# Altium schematic symbol library DMP3013SFV-7.SchLib: 1 symbol
Pins are listed as number, name and electrical type; pins without a type are passive.

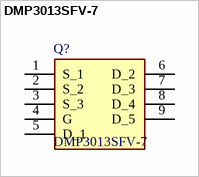
[diagram p0: symbol DMP3013SFV-7]

## DMP3013SFV-7
designator Q?
Trans MOSFET P-CH 30V 12A 8-Pin PowerDI EP T/R; Manufacturer_Name: Diodes Incorporated; Geometry.Height: 0.85mm; Mouser Part Number: 621-DMP3013SFV-7; Mouser Price/Stock: https://www.mouser.co.uk/ProductDetail/Diodes-Incorporated/DMP3013SFV-7?qs=W0yvOO0ixfH1hnmiAtL1VQ%3D%3D; Manufacturer_Part_Number: DMP3013SFV-7; Datasheet Link: https://4donline.ihs.com/images/VipMasterIC/IC/DIOD/DIOD-S-A0008513542/DIOD-S-A0008513542-1.pdf?hkey=52A5661711E402568146F3353EA87419
footprint DMP3013SFV7
pins: 1 S_1, 2 S_2, 3 S_3, 4 G, 5 D_1, 6 D_2, 7 D_3, 8 D_4, 9 D_5